# Altium schematic symbol library DAQ.SchLib: 34 symbols
Pins are listed as number, name and electrical type; pins without a type are passive.

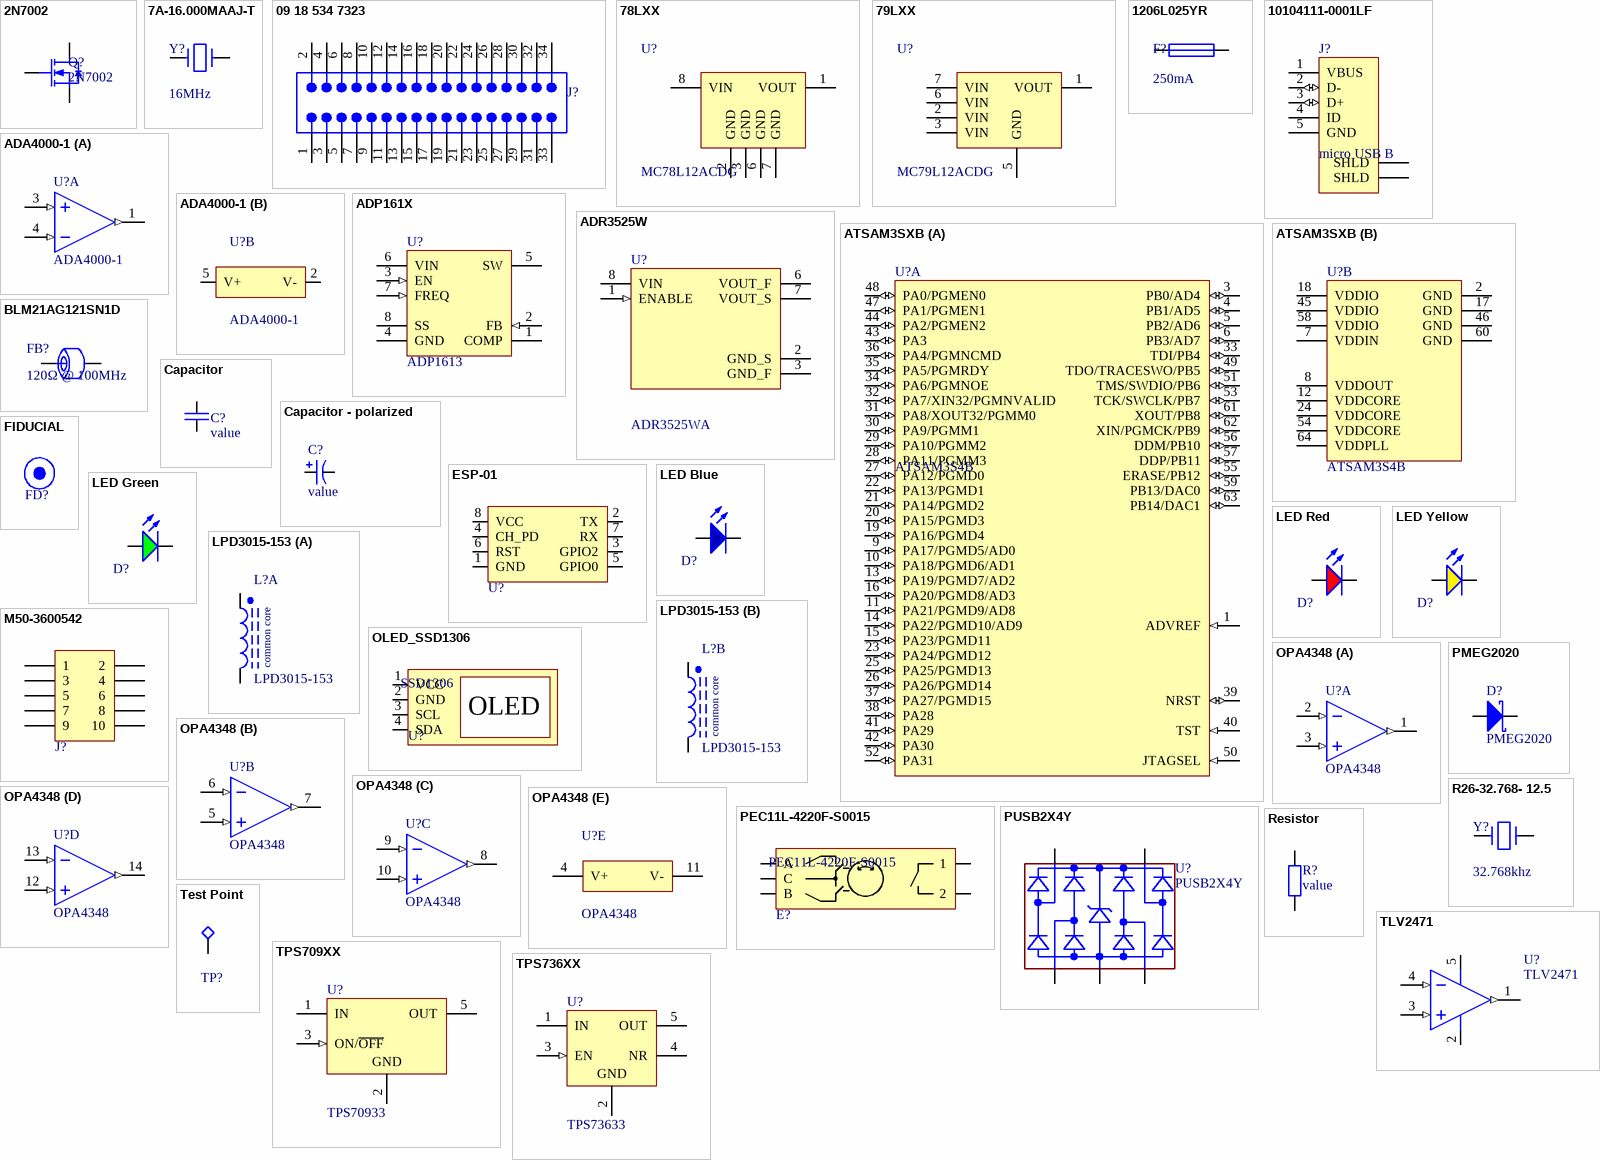
[diagram p0: symbols 2N7002 to TPS736XX]

## 2N7002
designator Q?
Power MOSFET, N Channel, 60 V, 300 mA, 2.8 ohm, SOT-23, Surface Mount; Manufacturer: NXP; Dealer number: 1510761; Dealer: Farnell; Max voltage: 60V; Max current: 0.3A; RDS: 2.8Ω; Max power disipation: 830mW; Type: N-enhancment mode; Logic level: Yes; Category: MOSFETs; Price: 0.039; Manufacturer Number: 2N7002; Case: SOT23-3; Technology: SMT; HelpURL: https://www.farnell.com/datasheets/1499179.pdf; SKU: 5000000000001
footprint SOT23-3
pins: 1 G, 2 S, 3 D

## 7A-16.000MAAJ-T
designator Y?, comment 16MHz
Crystal, 16 MHz, SMD, 5mm x 3.2mm, 30 ppm, 18 pF, 30 ppm, 7A Series; Manufacturer: TCX; Manufacturer Number: 7A-16.000MAAJ-T; Dealer number: 1841946; Dealer: Farnell; Load capacitance: 18pF; Frequency tolerance: 30ppm; Category: Crystals; Price: 0.91; Value: 16MHz; Technology: SMT; Case: 5X3.2; HelpURL: https://www.farnell.com/datasheets/1041607.pdf
footprint 5X3.2
pins: 1, 2

## 09 18 534 7323
designator J?, comment 2X17  (value not drawn)
Pin Header, Right Angle, Wire-to-Board, 2.54 mm, 2 Rows, 34 Contacts, Through Hole Right Angle; Manufacturer: Harting; Manufacturer Number: 09 18 534 7323; Dealer number: 1106736; Dealer: Farnell; Pitch: 2.54mm; Lenght: 2.9mm; Strain Reliefe: no; Category: Connectors; Price: 2.26; Pins: 34; Orientation: right angle; Technology: THT; HelpURL: https://www.farnell.com/datasheets/2012759.pdf
footprint IDC34R
pins: 1, 2, 3, 4, 5, 6, 7, 8, 9, 10, 11, 12, 13, 14, 15, 16, 17, 18, 19, 20, 21, 22, 23, 24, 25, 26, 27, 28, 29, 30, 31, 32, 33, 34

## 78LXX
designator U?, comment MC78L12ACDG
Linear Voltage Regulator, 7812, Fixed, Positive, 19V To 35V In, 12V And 0.1A Out, SOIC-8; Manufacturer: ON Semiconductors; Dealer number: 9666273; Dealer: Farnell; Output current: 100mA; Voltage tolerance: 5%; Teperature range: 0°C to +150°C; LDO: No; Category: Integrated circuits; Price: 0.43; Manufacturer Number: MC78L12ACDG; Output Voltage: 12V; Max input voltage: 35V; Low noise: No; Case: SOIC8; Technology: SMT; HelpURL: https://www.farnell.com/datasheets/2236920.pdf
footprint SOIC8
pins: 1 VOUT (power), 2 GND (power), 3 GND (power), 6 GND (power), 7 GND (power), 8 VIN (power)

## 79LXX
designator U?, comment MC79L12ACDG
Linear Voltage Regulator, 100 mA, 5 V, Negative Vout: -12 V; TJ = 0°C to +125°C; Manufacturer: ON Semiconductors; Dealer number: 1652361; Dealer: Farnell; Output Voltage: -12V; Max input voltage: -14V; Output current: 100mA; Voltage tolerance: 5%; Teperature range: 0°C to +150°C; LDO: No; Category: Integrated circuits; Price: 0.52; Manufacturer Number: MC79L12ACDG; Low noise: No; Case: SOIC8; Technology: SMT; HelpURL: https://www.farnell.com/datasheets/2255359.pdf
footprint SOIC8
pins: 1 VOUT (power), 2 VIN (power), 3 VIN (power), 5 GND (power), 6 VIN (power), 7 VIN (power)

## 1206L025YR
designator F?, comment 250mA
Resettable Fuse, PPTC, 1206 (3216 Metric), POLYFUSE 1206L Series, 16 VDC, 250 mA, 500 mA, 0.08 s; Manufacturer: Littelfuse; Manufacturer Number: 2920L030DR; Dealer number: 1596990; Dealer: Farnell; Trip current: 500mA; Max voltage: 16V; Resistance: 2.3Ω; Category: Fuses; Price: 0.46; Type: Poly fuse; Holing current: 250mA; Technology: SMT; HelpURL: https://www.farnell.com/datasheets/683946.pdf
footprint PPTCF 1206 (PPTC fuse 2-Leads, Body 3.15x1.60mm, IPC Medium Density)
pins: 1, 2

## 10104111-0001LF
designator J?, comment micro USB B
USB Connector, Micro USB Type AB, USB 2.0, Receptacle, 5 Ways, Surface Mount, Right Angle; Manufacturer: FCI; Manufacturer Number: 10104111-0001LF; Dealer number: 2293755; Dealer: Farnell; Category: Connectors; Price: 0.37; Gender: Receptacle; Type: A; Size: micro; Technology: SMT / SMT; HelpURL: https://www.farnell.com/cad/2354255.pdf
footprint MICRO_USB_A
pins: 1 VBUS (power) "Power", 2 D- (io) "-DATA", 3 D+ (io) "+DATA", 4 ID "On-The-Go ID distinguishes cable ends", 5 GND (power) "Ground", 6 SHLD "Shield", 7 SHLD "Shield"

## ADA4000-1
designator U?
Operational Amplifier, Single, 1 Amplifier, 5 MHz, 20 V/µs, ± 4V to ± 18V, TSOT, 5 Pins; Manufacturer: Analog devices; Manufacturer Number: ADA4000-1AUJZ-R7; Dealer number: 2461002; Dealer: Farnell; Supply voltage max: +-18V; Devices: 1; Category: Integrated circuits; Price: 1.97; Case: SOT; Technology: SMT; HelpURL: https://www.farnell.com/datasheets/698265.pdf
footprint SOT23-5
part A pins: 1 OUT (out), 3 IN+ (in), 4 IN- (in)
part B pins: 2 V- (power), 5 V+ (power)

## ADP161X
designator U?, comment ADP1613
DC-DC Switching Boost, SEPIC Regulator, Adjustable, 2.5V-5.5Vin, 3.6V-20Vout, 2Aout, MSOP-8; Manufacturer: Analog devices; Manufacturer Number: ADP1613ARMZ-R7; Dealer number: 584-ADP1613ARMZ-R7; Dealer: Mouser; Switching element: Internal; Synchronious: No; Input voltage max: 5.5V; Input voltage min: 2.5V; Output voltage max: 20V; Output voltage min: 3.6V; Max output current: 1.5A; Category: Integrated circuits; Price: 1.63; Type: Boost; Case: MSOP8; Multyphaze: No; Ext Cock: No; Technology: SMT; HelpURL: https://eu.mouser.com/datasheet/2/609/ADP1612_1613-1503267.pdf
footprint MSOP8
pins: 1 COMP, 2 FB (in), 3 EN (in), 4 GND (power), 5 SW, 6 VIN (power), 7 FREQ (in), 8 SS

## ADR3525W
designator U?, comment ADR3525WA
Precision Voltage References 2.5V CMOS 8ppm/C; Manufacturer: Analog devices; Manufacturer Number: ADR3525WARMZ-R7; Part Number: VRX0002; Dealer number: 584-ADR3525WARMZ-R7; Dealer: Mouser; Max input voltage: 5.5V; Output current: 10mA; Voltage tolerance: 0.1%; Category: Integrated circuits; Price: 1.66; Output Voltage: 2.5V; Case: MSOP8; Technology: SMT; HelpURL: https://www.farnell.com/datasheets/1511785.pdf
footprint MSOP8
pins: 1 ENABLE (in), 2 GND_S (power), 3 GND_F (power), 6 VOUT_F (power), 7 VOUT_S (power), 8 VIN (power)

## ATSAM3SXB
designator U?, comment ATSAM3S4B
ARM MCU, SAM3S Series, SAM32 Family SAM 3S Series Microcontrollers, ARM Cortex-M3, 32bit, 64 MHz; Manufacturer: Atmel; Manufacturer Number: ATSAM3S4BA-AU; Dealer number: 1841656; Dealer: Farnell; Supply voltage max: 3.6V; Supply voltage min: 1.62V; Flash: 256kB; RAM: 48kB; GPIOs: 47; Timers: 3; ADCs: 8; SPI: 1; IIC: 2; Max Frequency: 64MHz; Category: Integrated circuits; Price: 6.58; Core: Cortex-M3; UART: 3; Case: LQFP64; Technology: SMT; HelpURL: https://www.farnell.com/datasheets/1698183.pdf; Temperature range: -40°C to +85°C
footprint LQFP64
part A pins: 1 ADVREF (in), 3 PB0/AD4 (io), 4 PB1/AD5 (io), 5 PB2/AD6 (io), 6 PB3/AD7 (io), 9 PA17/PGMD5/AD0 (io), 10 PA18/PGMD6/AD1 (io), 11 PA21/PGMD9/AD8 (io), 13 PA19/PGMD7/AD2 (io), 14 PA22/PGMD10/AD9 (io), 15 PA23/PGMD11 (io), 16 PA20/PGMD8/AD3 (io), 19 PA16/PGMD4 (io), 20 PA15/PGMD3 (io), 21 PA14/PGMD2 (io), 22 PA13/PGMD1 (io), 23 PA24/PGMD12 (io), 25 PA25/PGMD13 (io), 26 PA26/PGMD14 (io), 27 PA12/PGMD0 (io), 28 PA11/PGMM3 (io), 29 PA10/PGMM2 (io), 30 PA9/PGMM1 (io), 31 PA8/XOUT32/PGMM0 (io), 32 PA7/XIN32/PGMNVALID (io), 33 TDI/PB4 (io), 34 PA6/PGMNOE (io), 35 PA5/PGMRDY (io), 36 PA4/PGMNCMD (io), 37 PA27/PGMD15 (io), 38 PA28 (io), 39 NRST (io), 40 TST (in), 41 PA29 (io), 42 PA30 (io), 43 PA3 (io), 44 PA2/PGMEN2 (io), 47 PA1/PGMEN1 (io), 48 PA0/PGMEN0 (io), 49 TDO/TRACESWO/PB5 (io), 50 JTAGSEL (in), 51 TMS/SWDIO/PB6 (io), 52 PA31 (io), 53 TCK/SWCLK/PB7 (io), 55 ERASE/PB12 (io), 56 DDM/PB10 (io), 57 DDP/PB11 (io), 59 PB13/DAC0 (io), 61 XOUT/PB8 (io), 62 XIN/PGMCK/PB9 (io), 63 PB14/DAC1 (io)
part B pins: 2 GND (power), 7 VDDIN (power), 8 VDDOUT (power), 12 VDDCORE (power), 17 GND (power), 18 VDDIO (power), 24 VDDCORE (power), 45 VDDIO (power), 46 GND (power), 54 VDDCORE (power), 58 VDDIO (power), 60 GND (power), 64 VDDPLL (power)

## BLM21AG121SN1D
designator FB?, comment 120Ω @ 100MHz
Ferrite Bead, 0805 [2012 Metric], 120 ohm, 800 mA, BLM21A Series, 0.15 ohm, ± 25%; Manufacturer: Murata; Manufacturer Number: BLM21AG121SN1D; Dealer number: 1515617; Dealer: Farnell; DC resistance: 0.15Ω; Max current: 0.2A; Category: ferite beads; Price: 0.082; AC resistance: 120Ω; Frequency: 100MHz; Case: 0805; Technology: SMT; HelpURL: https://www.farnell.com/datasheets/1914683.pdf
footprint SMD_0805 (Chip 2-Leads, Body 2.05x1.25mm, IPC Medium Density)
pins: 1, 2

## Capacitor
designator C?, comment value
Generic capacitor; Value: value
footprint C_0603 (Chip Capacitor, 2-Leads, Body 1.57x0.85mm, IPC Medium Density)
footprint C_0805 (Chip Capacitor, 2-Leads, Body 2.05x1.25mm, IPC Medium Density)
footprint C_1206 (Chip Capacitor, 2-Leads, Body 3.20x1.60mm, IPC Medium Density)
footprint C_1210 (Chip Capacitor, 2-Leads, Body 3.20x2.50mm, IPC Medium Density)
pins: 1, 2

## Capacitor - polarized
designator C?, comment value
Generic polarized capacitor; Value: value
footprint Tantalum Case A
pins: 1, 2

## ESP-01
designator U?  (value not drawn)
WIFI module; Dealer: Ebay; Category: WIFI modules; Price: 3.8; Technology: THT; HelpURL: https://en.wikipedia.org/wiki/ESP8266
footprint ESP-01
pins: 1 GND, 2 TX, 3 GPIO2, 4 CH_PD, 5 GPIO0, 6 RST, 7 RX, 8 VCC

## FIDUCIAL
designator FD?, comment Fiducial 1mm  (value not drawn)  (no BOM)
Category: Fiducials
footprint FID1

## LED Blue
designator D?  (value not drawn)
footprint LED_0603 (SMD LED, 2-Leads, Body 1.57x0.85mm, IPC Medium Density)
footprint LED_0805 (SMD LED, 2-Leads, Body 2.05x1.25mm, IPC Medium Density)
footprint LED_1206 (SMD LED, 2-Leads, Body 3.15x1.60mm, IPC Medium Density)
pins: 1 -, 2 +

## LED Green
designator D?  (value not drawn)
Generic LED Green
footprint LED_0603 (SMD LED, 2-Leads, Body 1.57x0.85mm, IPC Medium Density)
footprint LED_0805 (SMD LED, 2-Leads, Body 2.05x1.25mm, IPC Medium Density)
footprint LED_1206 (SMD LED, 2-Leads, Body 3.15x1.60mm, IPC Medium Density)
pins: 1 -, 2 +

## LED Red
designator D?  (value not drawn)
footprint LED_0603 (SMD LED, 2-Leads, Body 1.57x0.85mm, IPC Medium Density)
footprint LED_0805 (SMD LED, 2-Leads, Body 2.05x1.25mm, IPC Medium Density)
footprint LED_1206 (SMD LED, 2-Leads, Body 3.15x1.60mm, IPC Medium Density)
pins: 1 -, 2 +

## LED Yellow
designator D?  (value not drawn)
footprint LED_0603 (SMD LED, 2-Leads, Body 1.57x0.85mm, IPC Medium Density)
footprint LED_0805 (SMD LED, 2-Leads, Body 2.05x1.25mm, IPC Medium Density)
footprint LED_1206 (SMD LED, 2-Leads, Body 3.15x1.60mm, IPC Medium Density)
pins: 1 -, 2 +

## LPD3015-153
designator L?  Note: common core
Inductor, Coupled, 15 µH, 20%, 1.42 ohm, 460 mA, 3mm x 3mm x 1.4mm; Manufacturer: Coilcraft; Manufacturer Number: LPD3015-153MRB; Dealer number: 2407927; Dealer: Farnell; Value: 15µH; Current RMS: 460mA; Current Satturation: 500mA; Resistance: 1.42Ω; Category: Inductors; Price: 0.82; Case: LPD3015; Technology: SMT; Tolerance: 20%; HelpURL: https://www.farnell.com/datasheets/1805317.pdf
footprint LPD3015
part A pins: 1, 2
part B pins: 3, 4

## M50-3600542
designator J?, comment Header 2X5  (value not drawn)
Pin Header, Board-to-Board, 1.27 mm, 2 Rows, 10 Contacts, Surface Mount, Archer M50 Series; Manufacturer: Harwin; Manufacturer Number: M50-3600542; Dealer number: 1022310; Dealer: Farnell; Gender: Male; Rows: 2; Pitch: 1.27mm; Category: Connectors; Price: 0.90; Pins: 5; Orientation: strait; Technology: SMD; HelpURL: https://cdn.harwin.com/pdfs/M50-360.pdf
footprint HEADER_2X05_1.27mm
pins: 1, 2, 3, 4, 5, 6, 7, 8, 9, 10

## OLED_SSD1306
designator U?, comment SSD1306
OLED display module; Dealer: Ebay; Category: Displays; Price: 7; Technology: THT; HelpURL: https://cdn-shop.adafruit.com/datasheets/SSD1306.pdf
footprint OLED1
pins: 1 VCC, 2 GND, 3 SCL, 4 SDA
text: OLED

## OPA4348
designator U?
Operational Amplifiers - Op Amps 1MHz 45uA RRIO Quad Op Amp; Manufacturer: Texas Instruments; Manufacturer Number: OPA4348AID; Dealer number: 595-OPA4348AID; Dealer: Mouser; Supply voltage max: 5.5V; Supply voltage min: 2.1V; Devices: 4; Rail to Rail: IN/OUT; Category: Integrated circuits; Price: 1.64; GBP: 1MHz; Case: SOIC14; Technology: SMT; HelpURL: http://www.ti.com/general/docs/suppproductinfo.tsp?distId=26&gotoUrl=http%3A%2F%2Fwww.ti.com%2Flit%2Fgpn%2Fopa4348
footprint SOIC14 (SOIC, 16-Leads, Body 8,65x3,91mm, Pitch 1,27mm, IPC Medium Density)
part A pins: 1 OUT A (out), 2 -IN A (in), 3 +IN A (in)
part B pins: 5 +IN B (in), 6 -IN B (in), 7 OUT B (out)
part C pins: 8 OUT C (out), 9 -IN C (in), 10 +IN C (in)
part D pins: 12 +IN D (in), 13 -IN D (in), 14 OUT D (out)
part E pins: 4 V+ (power), 11 V- (power)

## PEC11L-4220F-S0015
designator E?
Low Profile Encoder 15 PPR 2 Bit Quadrature 5VDC at 10 mA IP40 PCB Mount; Manufacturer: BOURNS; Dealer number: 652-PEC11L4220FS0015; Dealer: Mouser; Category: Rotary encoders; Price: 1.51; Technology: SMT; Manufacturer Number: PEC11L-4220F-S0015; HelpURL: https://www.farnell.com/datasheets/2259386.pdf
footprint PEC11L (Rotary Encoder)
pins: 1, 2, A, B, C

## PMEG2020
designator D?
Schottky Rectifier, 20 V, 2 A, Single, SOD-323, 2 Pins, 525 mV; Manufacturer: Infineon; Manufacturer Number: PMEG2020AEA; Dealer number: 8737940; Dealer: Farnell; Max  Reverse Voltage: 20V; Max current: 2A; Category: diodes; Price: 0.126; Case: SOD323; Technology: SMT; HelpURL: https://www.farnell.com/datasheets/667013.pdf
footprint SOD323
pins: 1 A, 2 K

## PUSB2X4Y
designator U?
ESD Protection Device, 3.8 V, SC-88, 6 Pins, PUSB2 Series; Manufacturer: Multicomp; Dealer number: 2400968; Dealer: Farnell; Clamping voltage: 3.8V; Category: diode array; Price: 0.174; Manufacturer Number: PUSB2X4Y; Case: SOT363; Technology: SMT; HelpURL: https://www.farnell.com/datasheets/1801208.pdf
footprint SOT363
pins: 1, 2, 3, 4, 6

## R26-32.768- 12.5
designator Y?, comment 32.768khz
Crystal, 32.768 kHz, Cylinder Radial, 6.2mm x 2mm Dia, 12.5 pF, 20 ppm, R26 Series; Part Number: XCR0010; Manufacturer: RALTRON; Manufacturer Number: R26-32.768- 12.5; Dealer number: 1652573; Dealer: Farnell; Value: 32.758khz; Load capacitance: 12pF; Frequency tolerance: 20ppm; Category: Crystals; Price: 0.18; Technology: THT; Case: 5X3.2_1; HelpURL: http://www.ramitechnology.com/products/spec/crystal/crystal-r38_26_145.pdf
footprint 2X6_FLAT
pins: 1, 2

## Resistor
designator R?, comment value
Generic resistor; Value: value
footprint R_0402 (Resistor, Chip; 1.00 mm L X 0.50 mm W X 0.40 mm H body)
footprint R_0603 (Chip Resistor, 2-Leads, Body 1.57x0.85mm, IPC Medium Density)
footprint R_0805 (Chip Resistor, 2-Leads, Body 2.05x1.25mm, IPC Medium Density)
footprint R_1206 (Chip Resistor, 2-Leads, Body 3.15x1.60mm, IPC Medium Density)
pins: 1, 2

## Test Point
designator TP?, comment test point 1.5mm  (value not drawn)
Test point ,1.5mm diameter, no hole; Category: testpoints
footprint TP1_FULL
pins: 1

## TLV2471
designator U?
Single, 6-V, 2.8-MHz, RRIO operational amplifier 5-SOT-23 -40 to 125; Manufacturer: Texas Instruments; Manufacturer Number: TLV2471IDBVT; Dealer number: 595-TLV2471IDBVT; Dealer: Mouser; Supply voltage max: 6V; Supply voltage min: 2.7V; Devices: 1; GBP: 2.8MHz; Rail to Rail: IN/OUT; Category: Integrated circuits; Price: 1.43; Case: SOT23-5; Technology: SMT; HelpURL: http://www.ti.com/general/docs/suppproductinfo.tsp?distId=26&gotoUrl=http%3A%2F%2Fwww.ti.com%2Flit%2Fgpn%2Ftlv2471
footprint SOT23-5
pins: 1 OUT A (out), 2 V- (power), 3 +IN A (in), 4 -IN A (in), 5 V+ (power)

## TPS709XX
designator U?, comment TPS70933
LDO Regulator Pos 3.3V 0.15A 5-Pin SOT-23 T/R; Manufacturer: Texas Instruments; Manufacturer Number: TPS70933DBVT; Dealer number: 595-TPS70933DBVT; Dealer: Mouser; Max input voltage: 30V; Output current: 150mA; Teperature range: -40°C to +85°C; LDO: Yes; Low noise: No; Category: Integrated circuits; Price: 0.86; Output Voltage: 3.3V; Case: SOT23-5; Technology: SMT; HelpURL: http://www.ti.com/general/docs/suppproductinfo.tsp?distId=26&gotoUrl=http%3A%2F%2Fwww.ti.com%2Flit%2Fgpn%2Ftps709
footprint SOT23-5
pins: 1 IN (power), 2 GND (power), 3 ON/~{OFF} (in), 5 OUT (power)

## TPS736XX
designator U?, comment TPS73633
LDO Regulator Pos 3.3V 0.4A 5-Pin SOT-23 T/R / IC REG LDO 3.3V 0.4A SOT23-5; Manufacturer: Texas instruments; Manufacturer Number: TPS73633DBV; Dealer number: 595-TPS73633DBVT; Dealer: Mouser; Max input voltage: 5.5V; Output current: 400mA; Voltage tolerance: 1%; Teperature range: -40°C to +125°C; LDO: Yes; Low noise: No; Category: Integrated circuits; Price: 2.53; Output Voltage: 3.3V; Case: SOT23-5; Technology: SMT; HelpURL: http://www.ti.com/general/docs/suppproductinfo.tsp?distId=26&gotoUrl=http%3A%2F%2Fwww.ti.com%2Flit%2Fgpn%2Ftps736
footprint SOT23-5
pins: 1 IN (power), 2 GND (power), 3 EN (in), 4 NR, 5 OUT (power)

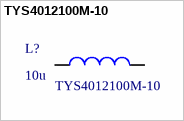
[diagram p1: symbol TYS4012100M-10]

## TYS4012100M-10
designator L?, comment 10u  Manufacturer Number: TYS4012100M-10
Power Inductor (SMD), 10 µH, 770 mA, Shielded, 800 mA, TYS Series, 4mm x 4mm x 1.2mm; Manufacturer: Laird Technologies; Dealer number: 2292514; Dealer: Farnell; Value: 10µH; Current RMS: 770mA; Current Satturation: 800mA; Resistance: 0.265Ω; Tolerance: 20%; Category: Inductors; Type: Power; Price: 0.26; Case: 4mm X 4mm; Technology: SMT; HelpURL: https://www.farnell.com/datasheets/1685921.pdf
footprint IND_SMD_4X4mm
pins: 1, 2